# Altium schematic symbol library MAX7221EWG+T.Schlib: 1 symbol
Pins are listed as number, name and electrical type; pins without a type are passive.

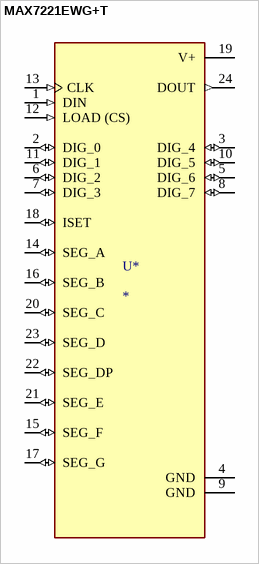
[diagram p0: symbol MAX7221EWG+T]

## MAX7221EWG+T
designator U*
IC DRVR 7 SEGMNT 8 DIGIT 24SOIC; MF: Maxim Integrated; MP: MAX7219CWG-T; Package: SOIC-24 Maxim Integrated; Value: *; Price: None; Availability: Unavailable; SnapEDA_Link: https://www.snapeda.com/parts/MAX7219CWG-T/Maxim%20Integrated/view-part/1041821/?ref=snap; ComponentLink1Description: LCSC - Maxim Integrated MAX7221EWG+T; ComponentLink1URL: https://lcsc.com/product-detail/LED-Drivers_MAXIM_MAX7221EWG-T_MAX7221EWG-T_C124668.html; LCSC Part #: C124668
footprint SOIC127P1032X265-24N (Footprint not found)
pins: 1 DIN (in), 2 DIG_0 (io), 3 DIG_4 (io), 4 GND (power), 5 DIG_6 (io), 6 DIG_2 (io), 7 DIG_3 (io), 8 DIG_7 (io), 9 GND (power), 10 DIG_5 (io), 11 DIG_1 (io), 12 LOAD (CS) (in), 13 CLK (in), 14 SEG_A (io), 15 SEG_F (io), 16 SEG_B (io), 17 SEG_G (io), 18 ISET (io), 19 V+ (power), 20 SEG_C (io), 21 SEG_E (io), 22 SEG_DP (io), 23 SEG_D (io), 24 DOUT (out)